# EAGLE library part VL6180X (library Podkładka.pod.kubek.2_Bartosz.Kępa)
VL6180X ToF Distance Sensor Range: 5-200mm Accuracy: ±3mm Interface: I2C
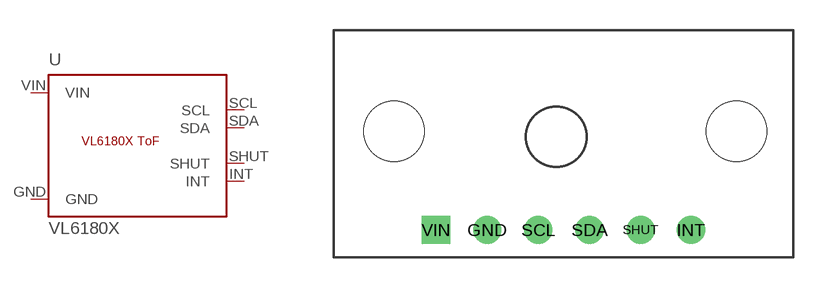
[diagram p0: symbol with the pads of VL6180X_MODULE; footprint VL6180X_MODULE]

Designator prefix U

## VL6180X  [VL6180X_MODULE]
GND  GND  pwr
INT  INT
SCL  SCL
SDA  SDA
SHUT  SHUT
VIN  VIN  pwr

## Footprint VL6180X_MODULE (pad centres in mm)
VL6180X ToF Sensor 15x8mm
drill 0.8 pad 1.4: GND 7.62,0.1; INT 17.74,0.1; SCL 10.16,0.1; SDA 12.7,0.1; SHUT 15.24,0.1
drill 0.8 pad 1.4 square: VIN 5.08,0.1
hole 3 at 3,5
hole 3 at 20,5